# Altium schematic symbol library dac.SchLib: 15 symbols
Pins are listed as number, name and electrical type; pins without a type are passive.

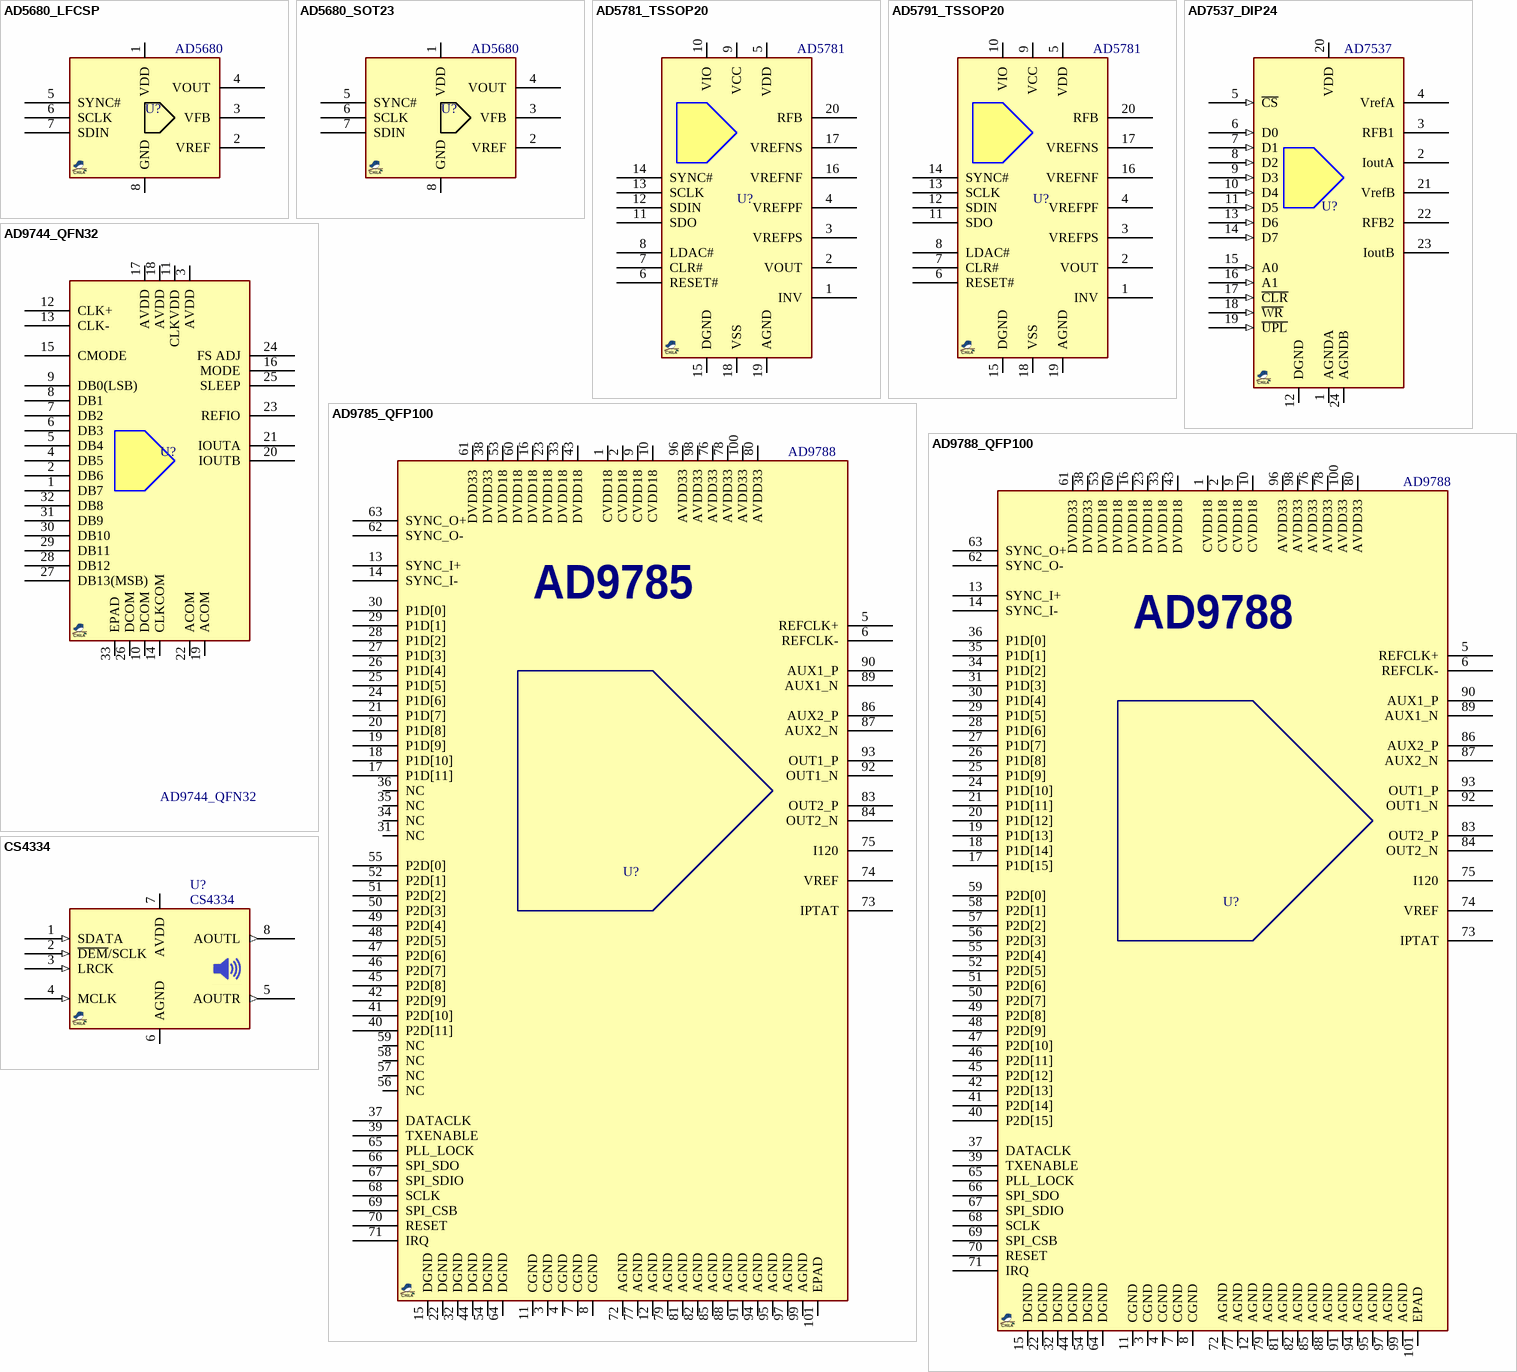
[diagram p0: symbols AD5680_LFCSP to CS4334]

## AD5680_LFCSP
designator U?, comment AD5680
DAC, 18-Bit, 5VCC; MANF: Analog Devices; MANF_P#: AD5680BCPZ; PARAM2: 5VCC; PARAM: 18-Bit; PRICE: $8.5; VALUE: AD5680
footprint SON65_8_3X3 (Footprint not found)
pins: 1 VDD, 2 VREF, 3 VFB, 4 VOUT, 5 SYNC#, 6 SCLK, 7 SDIN, 8 GND

## AD5680_SOT23
designator U?, comment AD5680
DAC, 18-Bit, 12.5Ksps, 5VCC; MANF: Analog Devices; MANF_P#: AD5680BRJZ; PARAM2: 5VCC; PARAM: 18-Bit; PRICE: $8.5; VALUE: AD5680
footprint SOT23_8 (SOT23, 8-Leads, Body 2.90x2.80mm, Pitch 0.65mm, DSO65_8_300X150)
pins: 1 VDD, 2 VREF, 3 VFB, 4 VOUT, 5 SYNC#, 6 SCLK, 7 SDIN, 8 GND

## AD5781_TSSOP20
designator U?, comment AD5781
DAC, 18-Bit, Voltage output, ±0.5 LSB, Wide power supply up to ±16.5V; MANF: Analog Devices; MANF_P#: AD5781BRUZ, AD5781ARUZ; PARAM2: Wide power supply up to ±16.5V; PARAM: 18-Bit, Voltage output, ±0.5 LSB; PRICE: $45, $33; VALUE: AD5781
footprint SOG65_20 (PW TSSOP (TI), MO-153-AC (JEDEC), 20Lead, pitch: 0.65mm, 6.5x4.4x1.2mm)
pins: 1 INV, 2 VOUT, 3 VREFPS, 4 VREFPF, 5 VDD, 6 RESET#, 7 CLR#, 8 LDAC#, 9 VCC, 10 VIO, 11 SDO, 12 SDIN, 13 SCLK, 14 SYNC#, 15 DGND, 16 VREFNF, 17 VREFNS, 18 VSS, 19 AGND, 20 RFB

## AD5791_TSSOP20
designator U?, comment AD5781
DAC, 20-Bit, Voltage output, 1ppm ±1 LSB, Wide power supply up to ±16.5V; MANF: Analog Devices; MANF_P#: AD5791BRUZ, AD5791ARUZ; PARAM: 20-Bit, Voltage output, ±1 LSB; PARAM2: Wide power supply up to ±16.5V; PRICE: $106, $64; VALUE: AD5781
footprint SOG65_20 (PW TSSOP (TI), MO-153-AC (JEDEC), 20Lead, pitch: 0.65mm, 6.5x4.4x1.2mm)
pins: 1 INV, 2 VOUT, 3 VREFPS, 4 VREFPF, 5 VDD, 6 RESET#, 7 CLR#, 8 LDAC#, 9 VCC, 10 VIO, 11 SDO, 12 SDIN, 13 SCLK, 14 SYNC#, 15 DGND, 16 VREFNF, 17 VREFNS, 18 VSS, 19 AGND, 20 RFB

## AD7537_DIP24
designator U?, comment AD7537
DAC, Dual 12-Bit, LC2 MOS (8+4) Loading; MANF: Alanog Devices; MANF_P#: AD7537JRZ-ND; VALUE: AD7537
footprint DIP_24DW (DIP, pitch 2.54mm, 600mil Width)
signal-integrity model AD7537 (LC2MOS)
pins: 1 AGNDA (power), 2 IoutA, 3 RFB1, 4 VrefA, 5 ~{CS} (in), 6 D0 (in), 7 D1 (in), 8 D2 (in), 9 D3 (in), 10 D4 (in), 11 D5 (in), 12 DGND (power), 13 D6 (in), 14 D7 (in), 15 A0 (in), 16 A1 (in), 17 ~{CLR} (in), 18 ~{WR} (in), 19 ~{UPL} (in), 20 VDD (power), 21 VrefB, 22 RFB2, 23 IoutB, 24 AGNDB (power)

## AD9744_QFN32
designator U?
TxDAC 14-Bit, 210 MSPS; Value: AD9744; MANF: Analog Devices; MANF_P#: AD9744ACPZ
footprint QFN50_32T (QFN, 32, 5X5mm, 0.5mm)
pins: 1 DB7, 2 DB6, 3 AVDD, 4 DB5, 5 DB4, 6 DB3, 7 DB2, 8 DB1, 9 DB0(LSB), 10 DCOM, 11 CLKVDD, 12 CLK+, 13 CLK-, 14 CLKCOM, 15 CMODE, 16 MODE, 17 AVDD, 18 AVDD, 19 ACOM, 20 IOUTB, 21 IOUTA, 22 ACOM, 23 REFIO, 24 FS ADJ, 25 SLEEP, 26 DCOM, 27 DB13(MSB), 28 DB12, 29 DB11, 30 DB10, 31 DB9, 32 DB8, 33 EPAD

## AD9785_QFP100
designator U?, comment AD9788
DAC, 12-Bit, 2-CH, 800MSPS, low PWR 32-bit Complex NCO; MANF: Analog Devices; MANF_P#: AD9785BSVZ; PARAM2: 1.8v, 3.3v, 450mW; PARAM: 12-Bit, 2-CH, 800MSPS; PRICE: 51$; VALUE: AD9788
footprint QFG50_100T (LQFP100P, 14.0x14.0mm, Pitch 0.5mm)
pins: 1 CVDD18 (power), 2 CVDD18 (power), 3 CGND, 4 CGND, 5 REFCLK+, 6 REFCLK-, 7 CGND, 8 CGND, 9 CVDD18 (power), 10 CVDD18 (power), 11 CGND, 12 AGND, 13 SYNC_I+, 14 SYNC_I-, 15 DGND, 16 DVDD18 (power), 17 P1D[11], 18 P1D[10], 19 P1D[9], 20 P1D[8], 21 P1D[7], 22 DGND, 23 DVDD18 (power), 24 P1D[6], 25 P1D[5], 26 P1D[4], 27 P1D[3], 28 P1D[2], 29 P1D[1], 30 P1D[0], 31 NC, 32 DGND, 33 DVDD18 (power), 34 NC, 35 NC, 36 NC, 37 DATACLK, 38 DVDD33 (power), 39 TXENABLE, 40 P2D[11], 41 P2D[10], 42 P2D[9], 43 DVDD18 (power), 44 DGND, 45 P2D[8], 46 P2D[7], 47 P2D[6], 48 P2D[5], 49 P2D[4], 50 P2D[3], 51 P2D[2], 52 P2D[1], 53 DVDD18 (power), 54 DGND, 55 P2D[0], 56 NC, 57 NC, 58 NC, 59 NC, 60 DVDD18 (power), 61 DVDD33 (power), 62 SYNC_O-, 63 SYNC_O+, 64 DGND, 65 PLL_LOCK, 66 SPI_SDO, 67 SPI_SDIO, 68 SCLK, 69 SPI_CSB, 70 RESET, 71 IRQ, 72 AGND, 73 IPTAT, 74 VREF, 75 I120, 76 AVDD33 (power), 77 AGND, 78 AVDD33 (power), 79 AGND, 80 AVDD33 (power), 81 AGND, 82 AGND, 83 OUT2_P, 84 OUT2_N, 85 AGND, 86 AUX2_P, 87 AUX2_N, 88 AGND, 89 AUX1_N, 90 AUX1_P, 91 AGND, 92 OUT1_N, 93 OUT1_P, 94 AGND, 95 AGND, 96 AVDD33 (power), 97 AGND, 98 AVDD33 (power), 99 AGND, 100 AVDD33 (power), 101 EPAD
text: AD9785

## AD9788_QFP100
designator U?, comment AD9788
DAC, 16-Bit, 2-CH, 800MSPS, low PWR 32-bit Complex NCO; MANF: Analog Devices; MANF_P#: AD9788BSVZ; PARAM2: 1.8v, 3.3v, 450mW; PARAM: 16-Bit, 2-CH, 800MSPS; PRICE: 51$; VALUE: AD9788
footprint QFG50_100T (LQFP100P, 14.0x14.0mm, Pitch 0.5mm)
pins: 1 CVDD18 (power), 2 CVDD18 (power), 3 CGND, 4 CGND, 5 REFCLK+, 6 REFCLK-, 7 CGND, 8 CGND, 9 CVDD18 (power), 10 CVDD18 (power), 11 CGND, 12 AGND, 13 SYNC_I+, 14 SYNC_I-, 15 DGND, 16 DVDD18 (power), 17 P1D[15], 18 P1D[14], 19 P1D[13], 20 P1D[12], 21 P1D[11], 22 DGND, 23 DVDD18 (power), 24 P1D[10], 25 P1D[9], 26 P1D[8], 27 P1D[7], 28 P1D[6], 29 P1D[5], 30 P1D[4], 31 P1D[3], 32 DGND, 33 DVDD18 (power), 34 P1D[2], 35 P1D[1], 36 P1D[0], 37 DATACLK, 38 DVDD33 (power), 39 TXENABLE, 40 P2D[15], 41 P2D[14], 42 P2D[13], 43 DVDD18 (power), 44 DGND, 45 P2D[12], 46 P2D[11], 47 P2D[10], 48 P2D[9], 49 P2D[8], 50 P2D[7], 51 P2D[6], 52 P2D[5], 53 DVDD18 (power), 54 DGND, 55 P2D[4], 56 P2D[3], 57 P2D[2], 58 P2D[1], 59 P2D[0], 60 DVDD18 (power), 61 DVDD33 (power), 62 SYNC_O-, 63 SYNC_O+, 64 DGND, 65 PLL_LOCK, 66 SPI_SDO, 67 SPI_SDIO, 68 SCLK, 69 SPI_CSB, 70 RESET, 71 IRQ, 72 AGND, 73 IPTAT, 74 VREF, 75 I120, 76 AVDD33 (power), 77 AGND, 78 AVDD33 (power), 79 AGND, 80 AVDD33 (power), 81 AGND, 82 AGND, 83 OUT2_P, 84 OUT2_N, 85 AGND, 86 AUX2_P, 87 AUX2_N, 88 AGND, 89 AUX1_N, 90 AUX1_P, 91 AGND, 92 OUT1_N, 93 OUT1_P, 94 AGND, 95 AGND, 96 AVDD33 (power), 97 AGND, 98 AVDD33 (power), 99 AGND, 100 AVDD33 (power), 101 EPAD

## CS4334
designator U?
DAC AUDIO, 24-Bit, 96 kHz Stereo, SOP-8; MANF: CIRRUS LOGIC; MANF_P#: CS4334, CS4335, CS4338, CS4339; PARAM2: 5V; Value: CS4334
footprint SO_8 (SOP-8, 5x3.9mm body 1.27mm pitch, SOT96-1, M08A, S8, SOIC8, VO8, MS-012AA(JEDEC), R-8, 8S2, VOG8)
pins: 1 SDATA (in), 2 ~{DEM}/SCLK (in), 3 LRCK (in), 4 MCLK (in), 5 AOUTR (out), 6 AGND (power), 7 AVDD (power), 8 AOUTL (out)

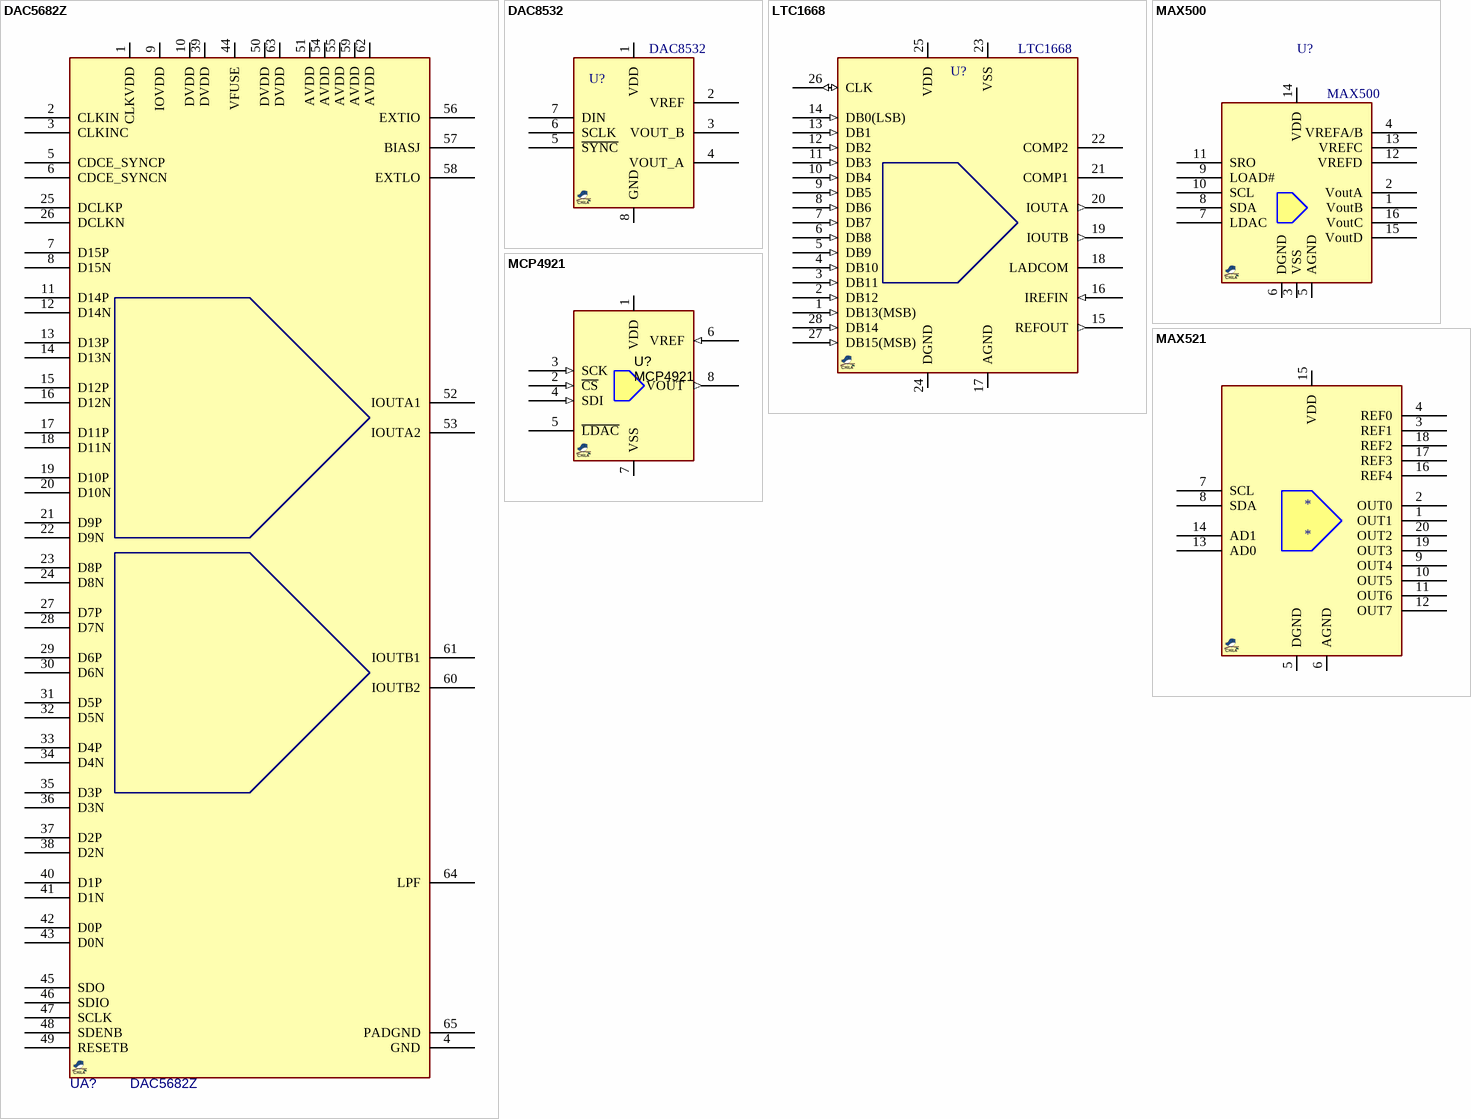
[diagram p1: symbols DAC5682Z to MCP4921]

## DAC5682Z
designator UA?
DAC, 1Gsps, 16-Bit; MANF: TI; DESC: DESCRIPTION; ASSEMBLY: ASSEMBLY; PARAM: PARAM; PRICE: PRICE; VALUE: DAC5682Z; MANF_P#: DAC5682Z
footprint QFN50_64T_S900
pins: 1 CLKVDD, 2 CLKIN, 3 CLKINC, 4 GND, 5 CDCE_SYNCP, 6 CDCE_SYNCN, 7 D15P, 8 D15N, 9 IOVDD, 10 DVDD, 11 D14P, 12 D14N, 13 D13P, 14 D13N, 15 D12P, 16 D12N, 17 D11P, 18 D11N, 19 D10P, 20 D10N, 21 D9P, 22 D9N, 23 D8P, 24 D8N, 25 DCLKP, 26 DCLKN, 27 D7P, 28 D7N, 29 D6P, 30 D6N, 31 D5P, 32 D5N, 33 D4P, 34 D4N, 35 D3P, 36 D3N, 37 D2P, 38 D2N, 39 DVDD, 40 D1P, 41 D1N, 42 D0P, 43 D0N, 44 VFUSE, 45 SDO, 46 SDIO, 47 SCLK, 48 SDENB, 49 RESETB, 50 DVDD, 51 AVDD, 52 IOUTA1, 53 IOUTA2, 54 AVDD, 55 AVDD, 56 EXTIO, 57 BIASJ, 58 EXTLO, 59 AVDD, 60 IOUTB2, 61 IOUTB1, 62 AVDD, 63 DVDD, 64 LPF, 65 PADGND

## DAC8532
designator U?
DAC, 16-Bit, 2-CH, VSSOP-8; MANF_P#: DAC8532IDGK; MANF: Texas Instruments; PARAM2: 2.7~5.5V; PRICE: $11; VALUE: DAC8532
footprint SOG65_8_3 (TSSOP8, MICRO8,  DGK VSSOP-8, MSOP8,   RM-8, MS8, MSOP-8, TSSO3X5-G8/D3.1, 8 uMAX, usop8/8uSOP, MO-187AA, MO-153AA, SSOP DCT SM8 (TI), pitch: 0.65mm, 3.0mmX3.0mm)
pins: 1 VDD (power), 2 VREF, 3 VOUT_B, 4 VOUT_A, 5 ~{SYNC}, 6 SCLK, 7 DIN, 8 GND

## LTC1668
designator U?
DAC, 16-Bit, 50MSPS, SSOP-28; MANF: Linear Technology; MANF_P#: LTC1668CG#PBF; PARAM2: ±5VCC; PARAM: 16-Bit, 50MSPS; VALUE: LTC1668
footprint SOG65_28_W (SOP, 28-Leads, Body 10.6x5.6mm (max), Pitch 0.65mm)
pins: 1 DB13(MSB) (in), 2 DB12 (in), 3 DB11 (in), 4 DB10 (in), 5 DB9 (in), 6 DB8 (in), 7 DB7 (in), 8 DB6 (in), 9 DB5 (in), 10 DB4 (in), 11 DB3 (in), 12 DB2 (in), 13 DB1 (in), 14 DB0(LSB) (in), 15 REFOUT (out), 16 IREFIN (in), 17 AGND (power), 18 LADCOM, 19 IOUTB (out), 20 IOUTA (out), 21 COMP1, 22 COMP2, 23 VSS (power), 24 DGND (power), 25 VDD (power), 26 CLK (io), 27 DB15(MSB) (in), 28 DB14 (in)

## MAX500
designator U?
DAC, 8-bit, 4-CH, voltage-output; MANF: Maxim Integrated; MANF_P#: MAX500; VALUE: MAX500
pins: 1 VoutB, 2 VoutA, 3 VSS, 4 VREFA/B, 5 AGND, 6 DGND, 7 LDAC, 8 SDA, 9 LOAD#, 10 SCL, 11 SRO, 12 VREFD, 13 VREFC, 14 VDD, 15 VoutD, 16 VoutC

## MAX521
designator *
DAC, 8-BIT, 4/8CH, SERIAL, voltage-output; MANF: Maxim Integrated; MANF_P#: MAX521; VALUE: MAX521
pins: 1 OUT1, 2 OUT0, 3 REF1, 4 REF0, 5 DGND, 6 AGND, 7 SCL, 8 SDA, 9 OUT4, 10 OUT5, 11 OUT6, 12 OUT7, 13 AD0, 14 AD1, 15 VDD, 16 REF4, 17 REF3, 18 REF2, 19 OUT3, 20 OUT2

## MCP4921
designator U?
DAC, 12-bit, SPI, SOP-8; PARAM: 12-Bit, 4.5 µs; PARAM2: 1.8~5.5V; DESC: Serial, SPI; MANF: Microchip Technology; MANF_P#: MCP4921-E/SN; VALUE: MCP4921
footprint SO_8 (SOP-8, 5x3.9mm body 1.27mm pitch, SOT96-1, M08A, S8, SOIC8, VO8, MS-012AA(JEDEC), R-8, 8S2, VOG8)
pins: 1 VDD (power), 2 ~{CS} (in), 3 SCK (in), 4 SDI (in), 5 ~{LDAC} (power), 6 VREF (in), 7 VSS (power), 8 VOUT (out)